# EAGLE library part QDSP-6064 (library GClue)
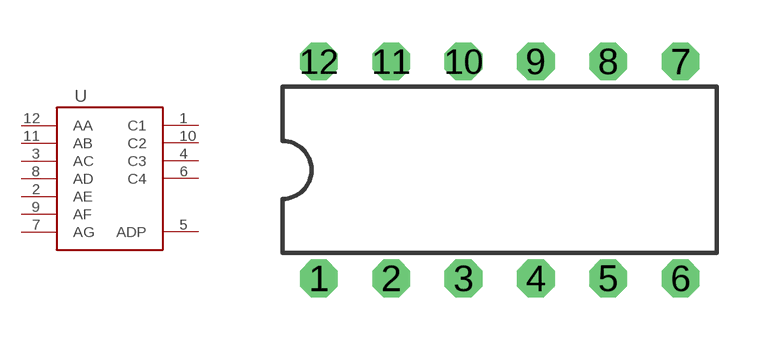
[diagram p26: symbol with the pads of DIL12; footprint DIL12]

Designator prefix U

## QDSP-6064  [DIL12]
1  C1
2  AE
3  AC
4  C3
5  ADP
6  C4
7  AG
8  AD
9  AF
10  C2
11  AB
12  AA

## Footprint DIL12 (pad centres in mm)
drill 0.813 octagon: 1 -6.35,-3.81; 2 -3.81,-3.81; 3 -1.27,-3.81; 4 1.27,-3.81; 5 3.81,-3.81; 6 6.35,-3.81; 7 6.35,3.81; 8 3.81,3.81; 9 1.27,3.81; 10 -1.27,3.81; 11 -3.81,3.81; 12 -6.35,3.81